# Altium footprint library JLCPCB Ceramic Capacitor PCB Lib.PcbLib: 3 footprints
Each footprint in its own frame and in the unit in brackets; x right, y up, seen from the top. Pads: shape width x height; smd on the part's side, far side on the other; paste and mask are expansions set on the pad; w line width, h text height; cw(c..) or ccw(c..) is an arc to the next point about the centre after c.
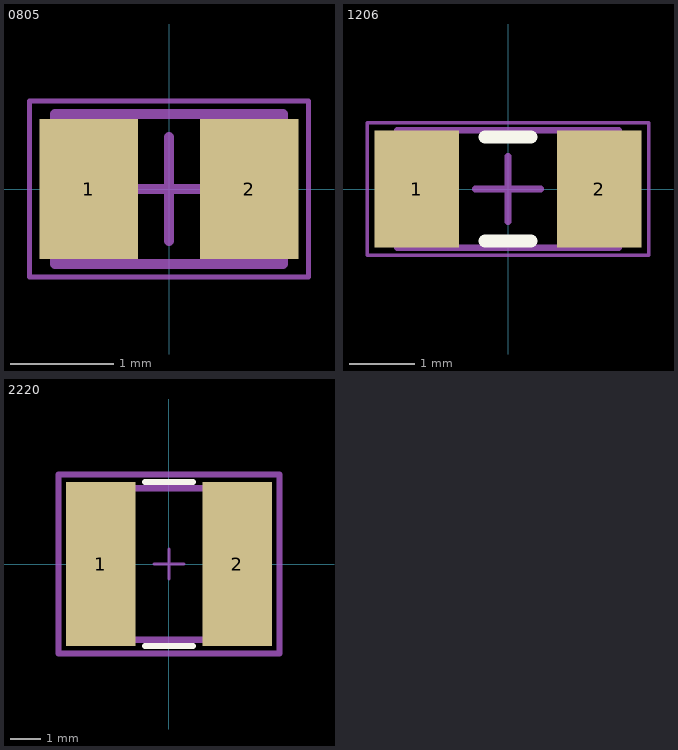
[diagram p0: the footprints below, top view; thin cyan lines are the x and y axes]

## 0805 [mm] "Chip Resistor, 2-Leads, Body 2.00x1.25mm, IPC High Density"
height 0.7
pads (2):
  rect 0.95x1.35 smd: 1(-0.775,0) 2(0.775,0)
Mechanical 13:
  lines w0.1: -1.1,-0.725 -1.1,0.725 1.1,0.725 1.1,-0.725 -1.1,-0.725
Mechanical 15:
  lines w0.05: -1.35,-0.85 1.35,-0.85 1.35,0.85 -1.35,0.85 -1.35,-0.85
  lines w0.1: -0.5,0 0.5,0 ; 0,-0.5 0,0.5
3D body: height 0.7, standoff 0, extent -0.7,-0.725 0.7,0.725
3D body: height 0.7, standoff 0, extent -1.1,-0.725 -0.7,0.725
3D body: height 0.7, standoff 0, extent 0.7,-0.725 1.1,0.725

## 1206 [mm] "SMD, 2-Leads, Body 3.4x1.8mm, IPC Medium Density"
height 0.88
pads (2):
  rect 1.3x1.8 smd: 1(-1.4,0) 2(1.4,0)
Top Overlay:
  lines w0.2: -0.35,-0.8 0.35,-0.8 ; -0.35,0.8 0.35,0.8
Mechanical 13:
  lines w0.1: -1.7,-0.9 1.7,-0.9 1.7,0.9 -1.7,0.9 -1.7,-0.9
Mechanical 15:
  lines w0.05: -2.159,-1.016 2.159,-1.016 2.159,1.016 -2.159,1.016 -2.159,-1.016
  lines w0.1: -0.5,0 0.5,0 ; 0,-0.5 0,0.5
3D body: height 0.88, standoff 0, extent 1.2,-0.9 1.7,0.9
3D body: height 0.88, standoff 0, extent -1.7,-0.9 -1.2,0.9
3D body: height 0.88, standoff 0, extent -1.2,-0.9 1.2,0.9

## 2220 [mm]
pads (2):
  rect 2.302x5.403 smd paste+0 mask+0: 1(-2.25,0) 2(2.25,0)
Top Overlay:
  lines w0.2: -0.799,-2.702 0.799,-2.702 ; -0.799,2.702 0.799,2.702
Top 3D Body:
  lines w0.2: -2.85,-2.5 -2.85,2.5 2.85,2.5 2.85,-2.5 -2.85,-2.5
Top Courtyard:
  lines w0.2: -3.652,-2.952 -3.652,2.952 3.652,2.952 3.652,-2.952 -3.652,-2.952
Top Assembly:
  lines w0.2: -3.652,-2.952 -3.652,2.952 3.652,2.952 3.652,-2.952 -3.652,-2.952
Mechanical 15:
  lines w0.1: -0.5,0 0.5,0 ; 0,-0.5 0,0.5
Top Component Center:
  lines w0.1: -0.5,0 0.5,0 ; 0,-0.5 0,0.5
3D body "Cap_Murata_GRM55D7U2H333JW31K_eec.STEP": height 0.25, standoff 0, extent -3.652,-2.952 3.652,2.952